# Altium footprint library PcbLib1.PcbLib: 14 footprints
Each footprint in its own frame and in the unit in brackets; x right, y up, seen from the top. Pads: shape width x height; smd on the part's side, far side on the other; paste and mask are expansions set on the pad; w line width, h text height; cw(c..) or ccw(c..) is an arc to the next point about the centre after c.
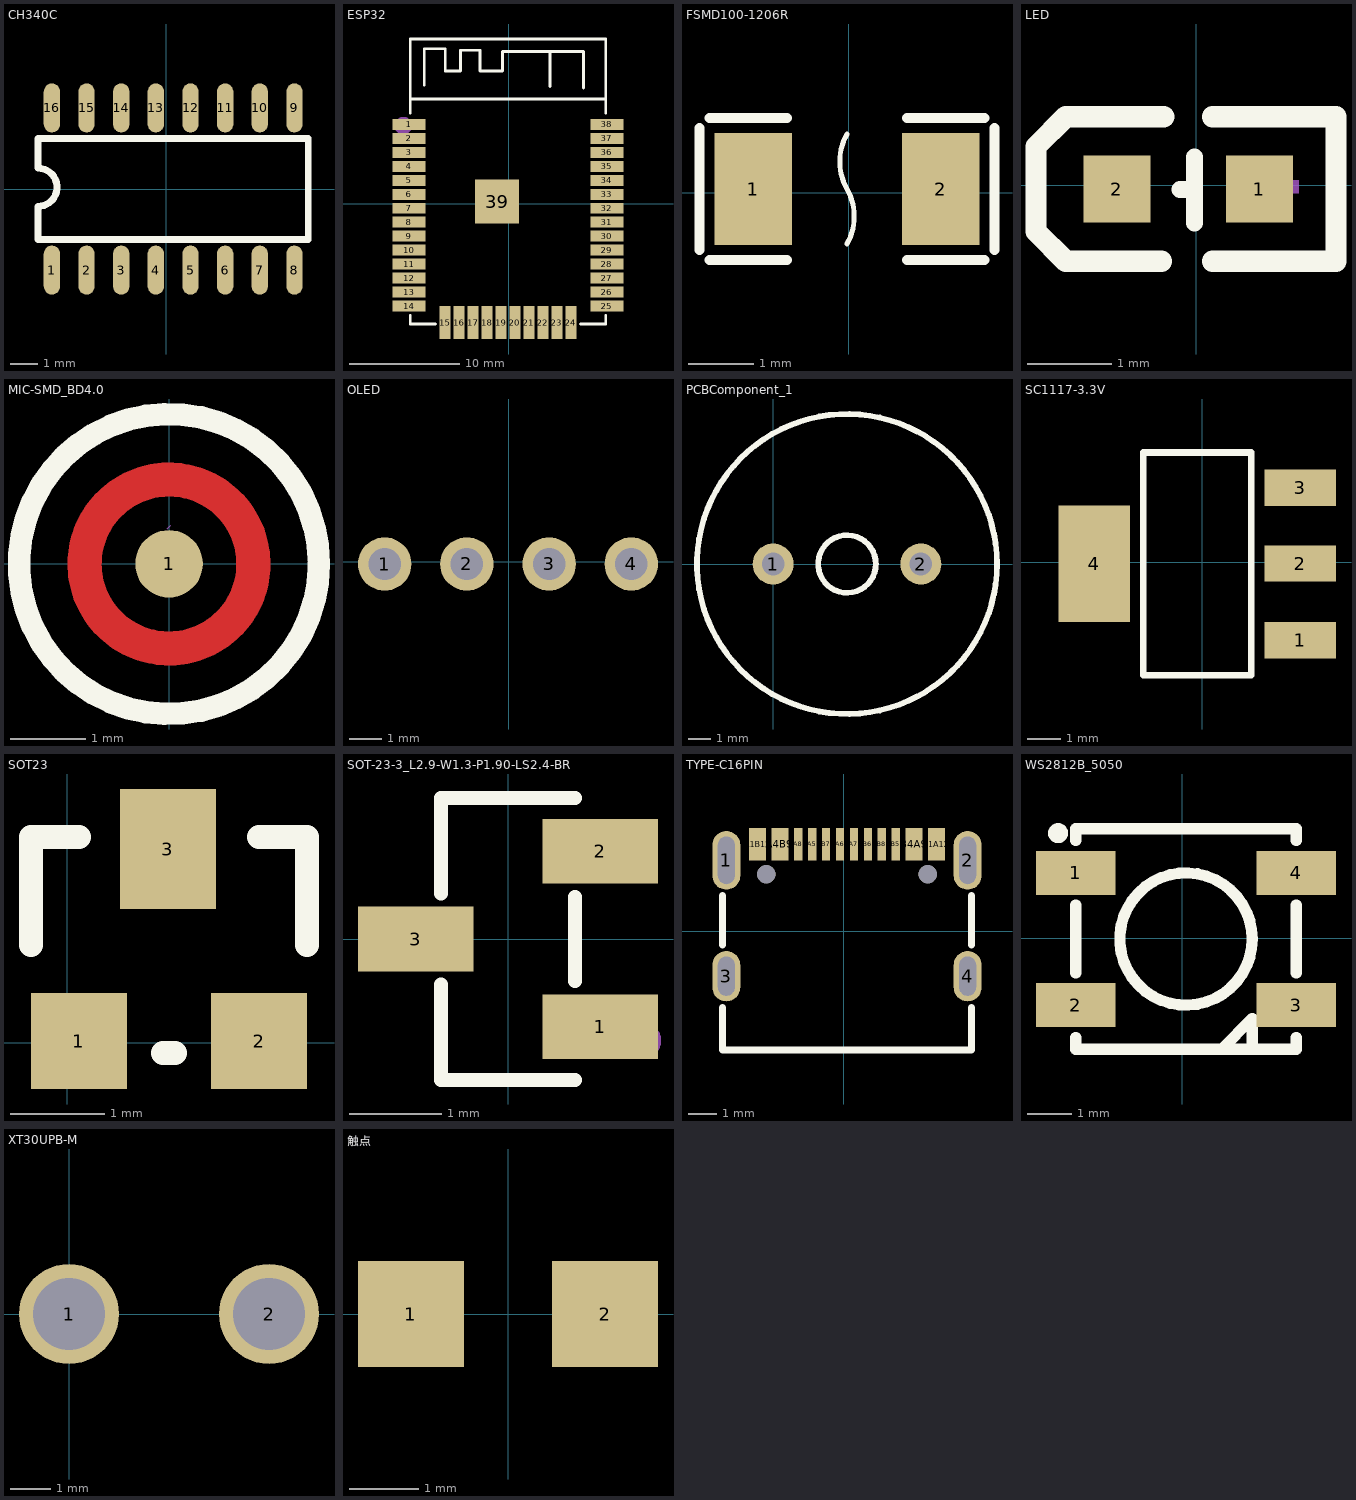
[diagram p0: the footprints below, top view; thin cyan lines are the x and y axes]

## CH340C [mm]
pads (16):
  oval 0.6x1.8 smd: 1(-4.2,-2.968) 2(-2.93,-2.968) 3(-1.66,-2.968) 4(-0.39,-2.968) 5(0.88,-2.968) 6(2.15,-2.968) 7(3.42,-2.968) 8(4.69,-2.968) 9(4.69,2.976) 10(3.42,2.976) 11(2.15,2.976) 12(0.88,2.976) 13(-0.39,2.976) 14(-1.66,2.976) 15(-2.93,2.976) 16(-4.2,2.976)
Top Overlay:
  lines w0.254: -4.708,0.766 cw(c-4.708,0.067) -4.708,-0.631 -4.708,-1.846 -4.705,-1.846 5.195,-1.846 5.195,1.854 -4.705,1.854 -4.705,0.766
3D body "SOP16.STEP": height 1.9, standoff 0, extent -4.746,-3.003 5.254,3.003

## ESP32 [mm]
pads (39):
  rect 3x1 smd: 1(-9.05,7.191) 2(-9.05,5.921) 3(-9.05,4.651) 4(-9.05,3.381) 5(-9.05,2.111) 6(-9.05,0.841) 7(-9.05,-0.429) 8(-9.05,-1.699) 9(-9.05,-2.969) 10(-9.05,-4.239) 11(-9.05,-5.509) 12(-9.05,-6.779) 13(-9.05,-8.049) 14(-9.05,-9.319) 25(8.95,-9.319) 26(8.95,-8.049) 27(8.95,-6.779) 28(8.95,-5.509) 29(8.95,-4.239) 30(8.95,-2.969) 31(8.95,-1.699) 32(8.95,-0.429) 33(8.95,0.841) 34(8.95,2.111) 35(8.95,3.381) 36(8.95,4.651) 37(8.95,5.921) 38(8.95,7.191)
  rect 1x3 smd: 15(-5.765,-10.819) 16(-4.495,-10.819) 17(-3.225,-10.819) 18(-1.955,-10.819) 19(-0.685,-10.819) 20(0.585,-10.819) 21(1.855,-10.819) 22(3.125,-10.819) 23(4.395,-10.819) 24(5.665,-10.819)
  rect 4x4 smd: 39(-1.05,0.182)
Top Overlay:
  lines w0.254: -8.94,-10.184 -8.94,-10.946 -6.654,-10.946 ; -8.94,8.231 -8.94,14.962 8.84,14.962 8.84,8.231 ; -8.94,9.501 8.84,9.501 ; -7.67,10.77 -7.67,14.072 -5.765,14.072 -5.765,12.04 -4.368,12.04 -4.368,13.945 -2.59,13.945 -2.59,12.04 -0.558,12.04 -0.558,13.818 6.808,13.818 6.808,10.516 ; 3.76,10.644 3.76,13.819 ; 6.554,-10.946 8.84,-10.946 8.84,-10.184
Mechanical 15:
  circle w0.8: c-9.575,7.076 r0.4
3D body "User Library-esp-wroom-32.STEP": height 3, standoff -0.04, extent -9.035,-10.795 9.035,14.745

## FSMD100-1206R [mm]
pads (2):
  rect 1.19x1.728 smd: 1(-1.471,0.055) 2(1.419,0.055)
Top Overlay:
  lines w0.076: -0.026,-0.79 ccw(c-0.758,-0.368) -0.026,0.055 cw(c0.705,0.477) -0.026,0.9
  lines w0.152: -2.295,-0.886 -2.295,0.995 ; -2.143,-1.038 -0.953,-1.038 ; -2.143,1.147 -0.953,1.147 ; 0.9,-1.038 2.09,-1.038 ; 0.9,1.147 2.09,1.147 ; 2.242,-0.886 2.242,0.995
3D body "FU 01206.STEP": height 0.87, standoff 0, extent -1.6,-0.81 1.6,0.81

## LED [mm]
pads (2):
  rect 0.8x0.8 smd: 1(0.753,-0.047) 2(-0.949,-0.047)
Top Overlay:
  lines w0.203: -0.197,-0.055 -0.022,-0.055 ; -0.022,-0.453 -0.022,0.334
  lines w0.254: -0.415,-0.911 -1.558,-0.911 -1.914,-0.555 -1.914,0.461 -1.558,0.817 -0.39,0.817 ; 0.194,-0.911 1.667,-0.911 1.667,0.817 0.194,0.817
Mechanical 15:
  region: 0.562,0.055 1.223,0.055 1.223,-0.098 0.562,-0.098
  region: 0.838,-0.322 0.838,0.338 0.99,0.338 0.99,-0.322
  region: -1.291,0.003 -0.631,0.003 -0.631,-0.15 -1.291,-0.15
3D body "LED 0603-R.STEP": height 0.47, standoff 0, extent -0.927,-0.421 0.673,0.381

## MIC-SMD_BD4.0 [mm]
pads (1):
  round 0.9 smd: 1(0,0)
Top Layer:
  region: 211 vertices and 0 holes, not listed, extent -1.35,-0.225 1.35,1.348
  region: 211 vertices and 0 holes, not listed, extent -1.35,-1.353 1.35,0.22
Top Overlay:
  circle w0.3: c0,-0.003 r2
Top Paste:
  drawing of 5 lines, arcs and shapes, not listed
Top Solder:
  drawing of 2 lines, arcs and shapes, not listed
Mechanical 15:
  lines w0.003: -0.025,0.464 0.025,0.515
3D body "3D_PCB1_2022-01-13 (1).STEP": height 1.52, standoff 0.03, extent -1.967,-1.967 2.032,2.032

## OLED [mm]
pads (4):
  round 1.65 hole 1: 1(-3.832,-0.073) 2(-1.292,-0.071) 3(1.248,-0.071) 4(3.788,-0.071)
3D body "User Library-128x64I2COLEDDisplayAdafruit.STEP": height 5.33, standoff -5.51, extent -13.238,-25.701 13.462,2.159

## PCBComponent_1 [mm]
pads (2):
  round 1.8 hole 1: 1(0,0) 2(6.5,0)
Top Overlay:
  circle w0.254: c3.25,0 r1.27
  circle w0.254: c3.25,0 r6.6
3D body "User Library-FM 12mm 300mil.step": height 9.3, standoff -3.5, extent -2.698,-6 9.302,6

## SC1117-3.3V [mil]
pads (4):
  rect 85x43 smd: 1(116.14,-92.85) 2(116.14,-1.85) 3(116.14,88.15)
  rect 85x138 smd: 4(-127.86,-1.85)
Top Overlay:
  lines w7.9: -69.66,-134.05 58.24,-134.05 58.24,129.75 -69.66,129.75 -69.66,-134.05
3D body "SW3DPS-SOT-223-DEFAULT.STEP": height 64.96, standoff -1.18, extent -132.01,-127.95 142.01,127.96

## SOT23 [mil] "封装库来自淘宝卖家 ID：黄晶宝石"
pads (3):
  rect 40x40 smd: 1(4.88,0.63) 2(79.88,0.63)
  rect 40x50 smd: 3(41.88,80.63)
Top Overlay:
  lines w10: -15.12,40.63 -15.12,85.63 4.88,85.63 ; 39.88,-4.37 44.88,-4.37 ; 79.88,85.63 99.88,85.63 99.88,40.63
3D body "SOT-23-3.STEP": height 47.24, standoff 0, extent -14.87,-11.02 99.3,99.22

## SOT-23-3_L2.9-W1.3-P1.90-LS2.4-BR [mm]
pads (3):
  rect 1.25x0.7 smd: 1(1,-0.95) 2(1,0.95) 3(-1,0)
Top Overlay:
  lines w0.152: -0.726,-0.495 -0.726,-1.526 0.726,-1.526 ; -0.726,0.495 -0.726,1.526 0.726,1.526 ; 0.726,-0.455 0.726,0.455
Mechanical 15:
  circle w0.2: c1.46,-1.1 r0.1

## TYPE-C16PIN [mm]
pads (18):
  oval 1x2.1 hole 0.6 slot 1.7 at 90 deg: 1(-4.208,2.536) 2(4.432,2.536)
  oval 1x1.8 hole 0.6 slot 1.4 at 90 deg: 3(-4.208,-1.613) 4(4.432,-1.613)
  rect 0.6x1.15 smd: A1B12(-3.088,3.111) A4B9(-2.288,3.111) B1A12(3.312,3.111) B4A9(2.512,3.111)
  rect 0.3x1.15 smd: A5(-1.138,3.111) A6(-0.138,3.111) A7(0.362,3.111) A8(-1.638,3.111) B5(1.862,3.111) B6(0.862,3.111) B7(-0.638,3.111) B8(1.362,3.111)
  round 0.65 hole 0.65 unplated: ""(-2.778,2.037) ""(3.002,2.037)
Top Overlay:
  lines w0.254: -4.338,-2.733 -4.338,-4.251 4.562,-4.251 4.562,-2.733 ; -4.338,-0.494 -4.338,1.267 ; 4.562,-0.494 4.562,1.267
Top Paste:
  region: -3.388,3.686 -2.788,3.686 -2.788,2.536 -3.388,2.536
  region: -2.588,3.686 -1.988,3.686 -1.988,2.536 -2.588,2.536
  region: 3.012,3.686 3.612,3.686 3.612,2.536 3.012,2.536
  region: 2.212,3.686 2.812,3.686 2.812,2.536 2.212,2.536
  region: 1.712,3.686 2.012,3.686 2.012,2.536 1.712,2.536
  region: 1.212,3.686 1.512,3.686 1.512,2.536 1.212,2.536
  region: 0.712,3.686 1.012,3.686 1.012,2.536 0.712,2.536
  region: 0.212,3.686 0.512,3.686 0.512,2.536 0.212,2.536
  region: -0.288,3.686 0.012,3.686 0.012,2.536 -0.288,2.536
  region: -0.788,3.686 -0.488,3.686 -0.488,2.536 -0.788,2.536
  region: -1.288,3.686 -0.988,3.686 -0.988,2.536 -1.288,2.536
  region: -1.788,3.686 -1.488,3.686 -1.488,2.536 -1.788,2.536
Mechanical 15:
  circle w0.25: c-2.778,2.037 r0.125
  circle w0.25: c3.002,2.037 r0.125
3D body "USB Type-C_A.STEP": height 3.25, standoff -0.85, extent -4.343,-4.378 4.597,3.522

## WS2812B_5050 [mm]
pads (4):
  rect 1.8x1 smd: 1(-2.417,1.481) 2(-2.417,-1.519) 3(2.583,-1.519) 4(2.583,1.481)
Top Overlay:
  circle w0.254: c-2.817,2.381 r0.1
  circle w0.254: c0.084,-0.019 r1.5
  lines w0.254: -2.417,-2.249 -2.417,-2.519 2.583,-2.519 2.583,-2.249 ; -2.417,-0.789 -2.417,0.75 ; -2.417,2.211 -2.417,2.481 2.583,2.481 2.583,2.211 ; 1.583,-1.819 1.583,-2.519 0.883,-2.519 1.583,-1.819 ; 2.583,-0.789 2.583,0.75
3D body "User Library-WS2812B.step": height 1.5, standoff -0.2, extent -2.7,-2.373 2.7,2.627

## XT30UPB-M [mm]
pads (2):
  round 2.5 hole 1.8: 1(0,0) 2(5,0)
3D body "XT30U-M.STEP": height 10.66, standoff -3.04, extent -2.814,-2.8 7.386,2.8

## 触点 [mil]
pads (2):
  rect 60x60 smd: 1(-55,0) 2(55,0)